# EAGLE library part 615008138021 (library 615008185221_Eagle_WR-MJ_rev20b)
WR-MJ Modular Jack Vertical Plastic 8P8C Kind Properties Quality Class:500 Mating cycles MATERIAL PROPERTIES Insulator Material PA9T Insulator Flammability Rating UL94 V-0 Insulator Color Black Contact Material Copper Alloy Contact Plating 6u' on contact plating Contact Type Stamped GENERAL INFORMATION Operating Temperature -40 up to +85 °C ELECTRICAL PROPERTIES Working Voltage 125 V (AC) Contact Resistance 35 mΩ RISO 1000 MΩ PACKAGING PROPERTIES Packaging Tray <https://www.we-online.com/catalog/media/o33124v209%20Family_WR-MJ_615008138021.jpg> Details see: https://www.we-online.com/catalog/en/MJ_VERTICAL_PLASTIC_8P8C/ Updated by Yingchun,Shan 2020-01-07 2020(C) Wurth Elektronik
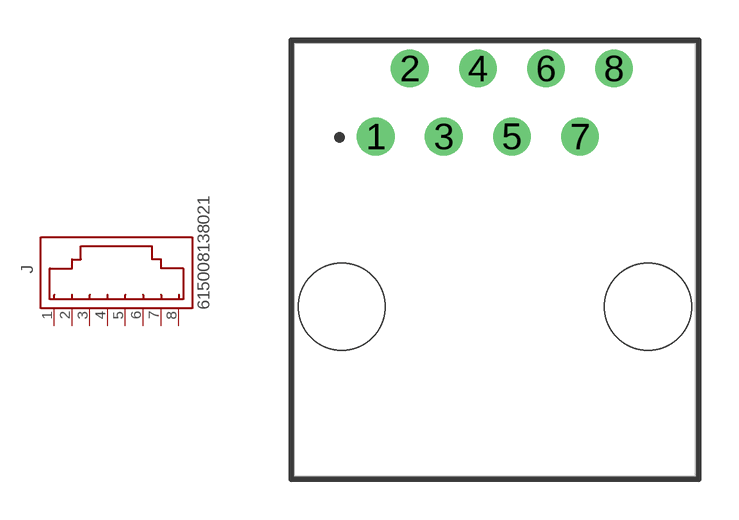
[diagram p7: symbol with the pads of 615008138021; footprint 615008138021]

Designator prefix J

## 615008138021 (DATASHEET-URL: https://www.we-online.com/catalog/datasheet/615008138021.pdf; MOUNT: THT; PART-NUMBER: 615008138021; TYPE: Vertical; VALUE: 615008138021; XPXC: 8P8C)  [615008138021]
1  8  pas
2  7  pas
3  6  pas
4  5  pas
5  4  pas
6  3  pas
7  2  pas
8  1  pas

## Footprint 615008138021 (pad centres in mm)
WR-MJ Vertical Plastic 8P8C Modular Jack, 8 pins
drill 0.9: 1 -4.445,4.6; 2 -3.175,7.14; 3 -1.905,4.6; 4 -0.635,7.14; 5 0.635,4.6; 6 1.905,7.14; 7 3.175,4.6; 8 4.445,7.14
hole 3.25 at -5.715,-1.75
hole 3.25 at 5.715,-1.75